# EAGLE library part CXA2075 (library Sony_Video_Encoder)
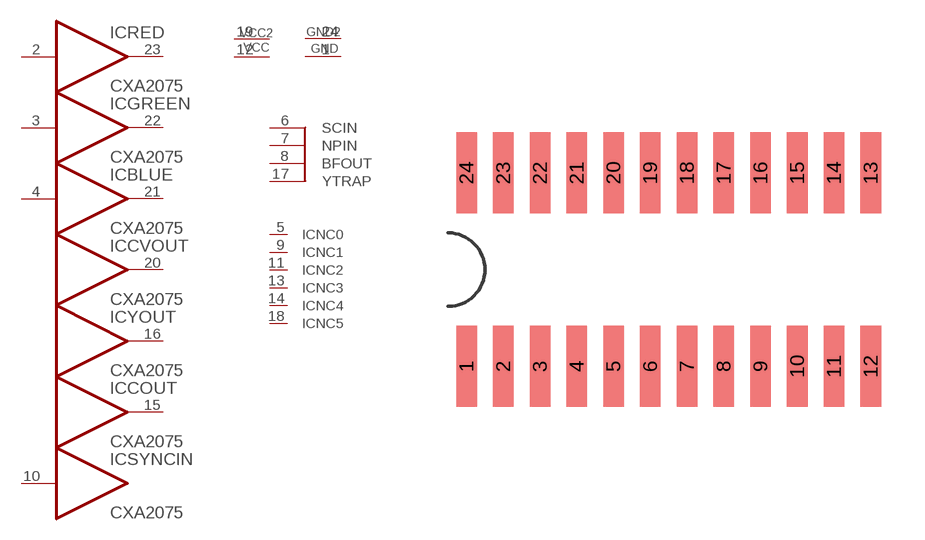
[diagram p2: symbol with the pads of SOP24N; footprint SOP24N]

Designator prefix IC; gates RED=BUFFER GREEN=BUFFER BLUE=BUFFER CVOUT=BUFFERNOIN YOUT=BUFFERNOIN COUT=BUFFERNOIN VCC=PWRN_VCC2 SYNCIN=BUFFERNOOUT G$1=CXA2075 NC0=NC NC1=NC NC2=NC NC3=NC NC4=NC NC5=NC

## CXA2075M  [SOP24N]
1  VCC:GND  pwr
2  RED:I
3  GREEN:I
4  BLUE:I
5  NC0:NC  nc
6  G$1:SCIN  in
7  G$1:NPIN  in
8  G$1:BFOUT  out
9  NC1:NC  nc
10  SYNCIN:I
11  NC2:NC  nc
12  VCC:VCC  pwr
13  NC3:NC  nc
14  NC4:NC  nc
15  COUT:O  out
16  YOUT:O  out
17  G$1:YTRAP
18  NC5:NC  nc
19  VCC:VCC2  pwr
20  CVOUT:O  out
21  BLUE:O  out
22  GREEN:O  out
23  RED:O  out
24  VCC:GND2  pwr

## Footprint SOP24N (pad centres in mm)
smd 0.711 x 2.794: 1 -5.715,-3.34; 2 -4.445,-3.34; 3 -3.175,-3.34; 4 -1.905,-3.34; 5 -0.635,-3.34; 6 0.635,-3.34; 7 1.905,-3.34; 8 3.175,-3.34; 9 4.445,-3.34; 10 5.715,-3.34; 11 6.985,-3.34; 12 8.255,-3.34; 13 8.255,3.34; 14 6.985,3.34; 15 5.715,3.34; 16 4.445,3.34; 17 3.175,3.34; 18 1.905,3.34; 19 0.635,3.34; 20 -0.635,3.34; 21 -1.905,3.34; 22 -3.175,3.34; 23 -4.445,3.34; 24 -5.715,3.34